# Altium footprint library TO-264-3.PcbLib: 1 footprints
Each footprint in its own frame and in the unit in brackets; x right, y up, seen from the top. Pads: shape width x height; smd on the part's side, far side on the other; paste and mask are expansions set on the pad; w line width, h text height; cw(c..) or ccw(c..) is an arc to the next point about the centre after c.
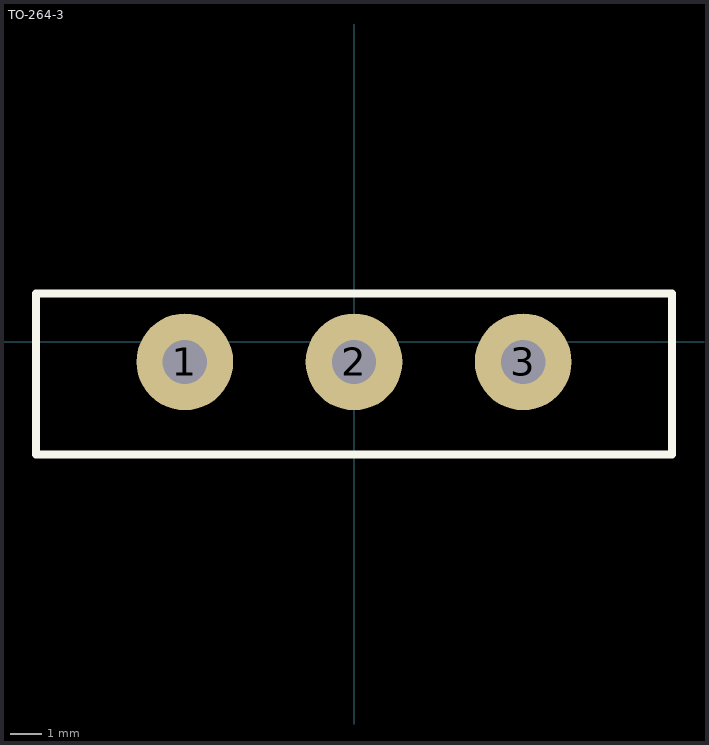
[diagram p0: the footprint, top view; thin cyan lines are the x and y axes]

## TO-264-3 [mil]
pads (3):
  round 120 hole 55: 1(-210,-25) 2(0,-25) 3(210,-25)
Top Overlay:
  lines w10: -395,-140 395,-140 395,60 -395,60 -395,-140
3D body "TO-264 (FGL60N120).STEP": height 1261.81, standoff -545.24, extent -393.7,-137.8 393.7,59.06